# Altium footprint library Components - 29.01.25 - 15.37.PcbLib: 1 footprints
Each footprint in its own frame and in the unit in brackets; x right, y up, seen from the top. Pads: shape width x height; smd on the part's side, far side on the other; paste and mask are expansions set on the pad; w line width, h text height; cw(c..) or ccw(c..) is an arc to the next point about the centre after c.
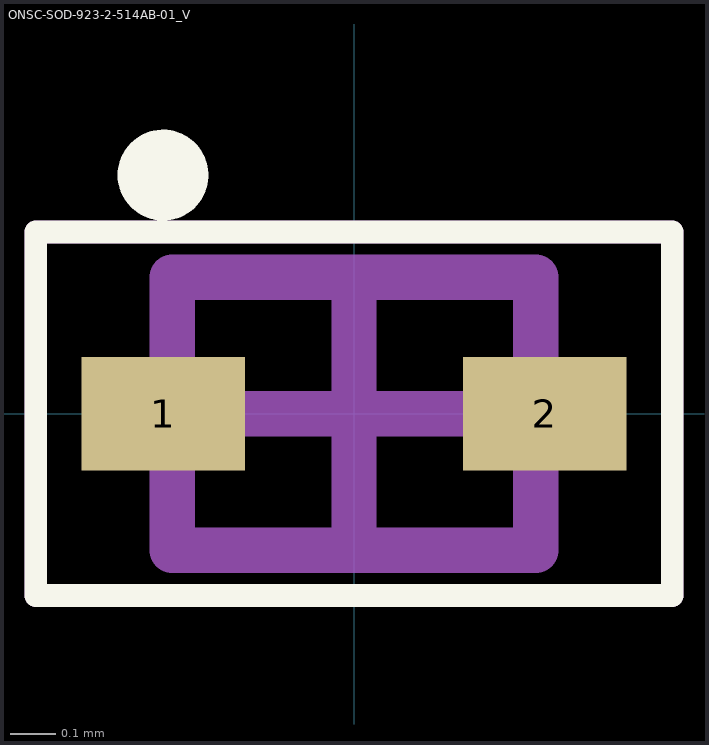
[diagram p0: the footprint, top view; thin cyan lines are the x and y axes]

## ONSC-SOD-923-2-514AB-01_V [mm] "SOD, 2-Leads, Body 0.8x0.6mm"
height 0.4
pads (2):
  rect 0.36x0.25 smd: 1(-0.42,0) 2(0.42,0)
Top Overlay:
  circle w0.1: c-0.42,0.525 r0.05
  lines w0.05: -0.7,-0.4 -0.7,0.4 ; -0.7,-0.4 0.7,-0.4 ; -0.7,-0.4 0.7,-0.4 ; -0.7,-0.4 -0.7,0.4 ; -0.7,0.4 0.7,0.4 ; -0.7,0.4 0.7,0.4 ; 0.7,-0.4 0.7,0.4 ; 0.7,-0.4 0.7,0.4
Mechanical 13:
  lines w0.1: -0.4,-0.3 0.4,-0.3 0.4,0.3 -0.4,0.3 -0.4,-0.3
Mechanical 15:
  lines w0.05: -0.7,-0.4 -0.7,0.4 ; -0.7,-0.4 0.7,-0.4 ; -0.7,-0.4 -0.7,0.4 ; -0.7,-0.4 0.7,-0.4 ; -0.7,0.4 0.7,0.4 ; -0.7,0.4 0.7,0.4 ; 0.7,-0.4 0.7,0.4 ; 0.7,-0.4 0.7,0.4
  lines w0.1: -0.25,0 0.25,0 ; 0,-0.25 0,0.25
3D body: height 0.4, standoff 0, extent -0.4,-0.3 0.4,0.3